# EAGLE library part PIC32MZXXXXEC(E/F/K)144-I/PL (library PIC32)
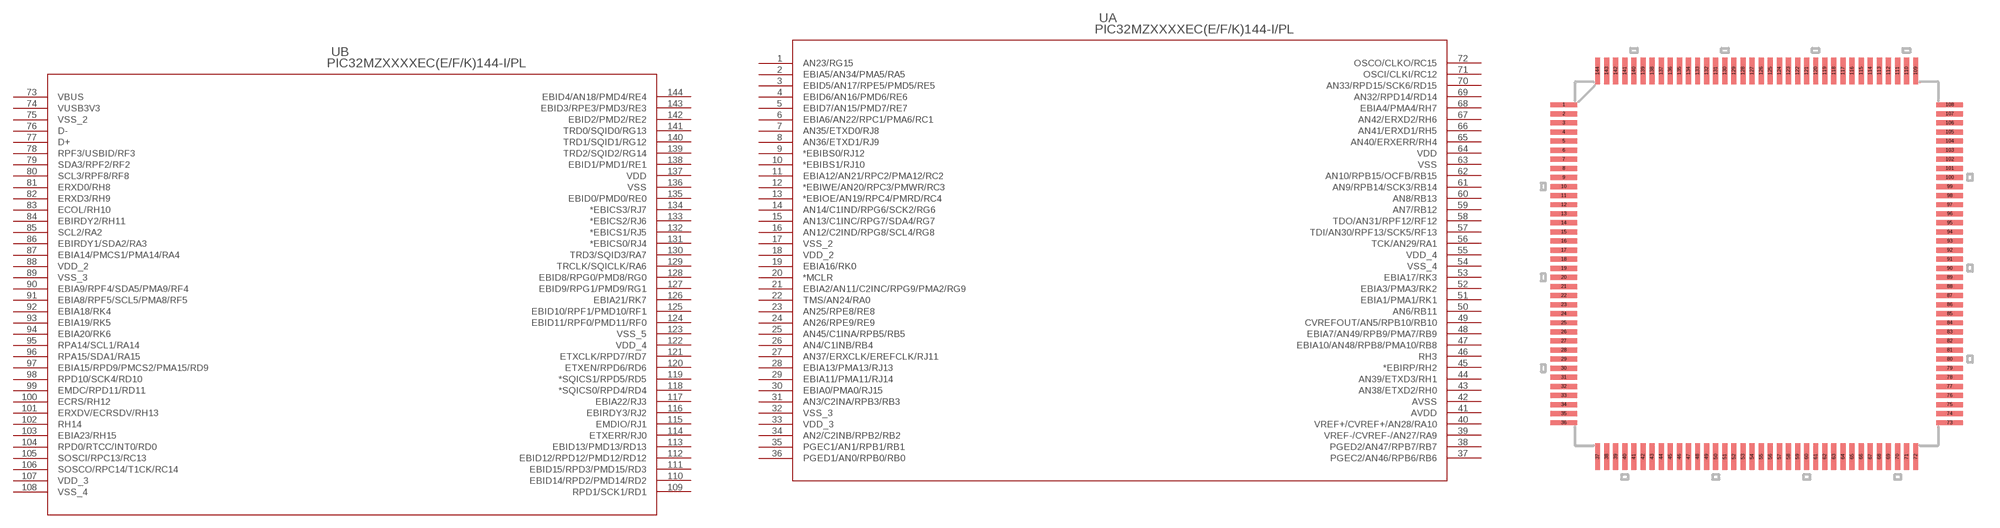
[diagram p0: symbol with the pads of LQFP144_20X20MC; footprint LQFP144_20X20MC]

Designator prefix U; gates A=PIC32MZXXXXEC(E/F/K)144-I/PL_A B=PIC32MZXXXXEC(E/F/K)144-I/PL_B

## PIC32MZXXXXEC(E/F/K)144-I/PL (MANUFACTURER_PART_NUMBER: pic32mz0512ece144-i/pl; VENDOR: Microchip)  [LQFP144_20X20MC]
1  A:AN23/RG15
2  A:EBIA5/AN34/PMA5/RA5
3  A:EBID5/AN17/RPE5/PMD5/RE5
4  A:EBID6/AN16/PMD6/RE6
5  A:EBID7/AN15/PMD7/RE7
6  A:EBIA6/AN22/RPC1/PMA6/RC1
7  A:AN35/ETXD0/RJ8
8  A:AN36/ETXD1/RJ9
9  A:*EBIBS0/RJ12
10  A:*EBIBS1/RJ10
11  A:EBIA12/AN21/RPC2/PMA12/RC2
12  A:*EBIWE/AN20/RPC3/PMWR/RC3
13  A:*EBIOE/AN19/RPC4/PMRD/RC4
14  A:AN14/C1IND/RPG6/SCK2/RG6
15  A:AN13/C1INC/RPG7/SDA4/RG7
16  A:AN12/C2IND/RPG8/SCL4/RG8
17  A:VSS_2  pwr
18  A:VDD_2  pwr
19  A:EBIA16/RK0
20  A:*MCLR  pas
21  A:EBIA2/AN11/C2INC/RPG9/PMA2/RG9
22  A:TMS/AN24/RA0
23  A:AN25/RPE8/RE8
24  A:AN26/RPE9/RE9
25  A:AN45/C1INA/RPB5/RB5
26  A:AN4/C1INB/RB4
27  A:AN37/ERXCLK/EREFCLK/RJ11
28  A:EBIA13/PMA13/RJ13
29  A:EBIA11/PMA11/RJ14
30  A:EBIA0/PMA0/RJ15
31  A:AN3/C2INA/RPB3/RB3
32  A:VSS_3  pwr
33  A:VDD_3  pwr
34  A:AN2/C2INB/RPB2/RB2
35  A:PGEC1/AN1/RPB1/RB1
36  A:PGED1/AN0/RPB0/RB0
37  A:PGEC2/AN46/RPB6/RB6
38  A:PGED2/AN47/RPB7/RB7
39  A:VREF-/CVREF-/AN27/RA9
40  A:VREF+/CVREF+/AN28/RA10
41  A:AVDD  pwr
42  A:AVSS  pwr
43  A:AN38/ETXD2/RH0
44  A:AN39/ETXD3/RH1
45  A:*EBIRP/RH2
46  A:RH3  pas
47  A:EBIA10/AN48/RPB8/PMA10/RB8
48  A:EBIA7/AN49/RPB9/PMA7/RB9
49  A:CVREFOUT/AN5/RPB10/RB10
50  A:AN6/RB11
51  A:EBIA1/PMA1/RK1
52  A:EBIA3/PMA3/RK2
53  A:EBIA17/RK3
54  A:VSS_4  pwr
55  A:VDD_4  pwr
56  A:TCK/AN29/RA1
57  A:TDI/AN30/RPF13/SCK5/RF13
58  A:TDO/AN31/RPF12/RF12
59  A:AN7/RB12
60  A:AN8/RB13
61  A:AN9/RPB14/SCK3/RB14
62  A:AN10/RPB15/OCFB/RB15
63  A:VSS  pwr
64  A:VDD  pwr
65  A:AN40/ERXERR/RH4
66  A:AN41/ERXD1/RH5
67  A:AN42/ERXD2/RH6
68  A:EBIA4/PMA4/RH7
69  A:AN32/RPD14/RD14
70  A:AN33/RPD15/SCK6/RD15
71  A:OSCI/CLKI/RC12
72  A:OSCO/CLKO/RC15
73  B:VBUS  pwr
74  B:VUSB3V3  pwr
75  B:VSS_2  pwr
76  B:D-  pas
77  B:D+  pas
78  B:RPF3/USBID/RF3
79  B:SDA3/RPF2/RF2
80  B:SCL3/RPF8/RF8
81  B:ERXD0/RH8
82  B:ERXD3/RH9
83  B:ECOL/RH10
84  B:EBIRDY2/RH11
85  B:SCL2/RA2
86  B:EBIRDY1/SDA2/RA3
87  B:EBIA14/PMCS1/PMA14/RA4
88  B:VDD_2  pwr
89  B:VSS_3  pwr
90  B:EBIA9/RPF4/SDA5/PMA9/RF4
91  B:EBIA8/RPF5/SCL5/PMA8/RF5
92  B:EBIA18/RK4
93  B:EBIA19/RK5
94  B:EBIA20/RK6
95  B:RPA14/SCL1/RA14
96  B:RPA15/SDA1/RA15
97  B:EBIA15/RPD9/PMCS2/PMA15/RD9
98  B:RPD10/SCK4/RD10
99  B:EMDC/RPD11/RD11
100  B:ECRS/RH12
101  B:ERXDV/ECRSDV/RH13
102  B:RH14  pas
103  B:EBIA23/RH15
104  B:RPD0/RTCC/INT0/RD0
105  B:SOSCI/RPC13/RC13
106  B:SOSCO/RPC14/T1CK/RC14
107  B:VDD_3  pwr
108  B:VSS_4  pwr
109  B:RPD1/SCK1/RD1
110  B:EBID14/RPD2/PMD14/RD2
111  B:EBID15/RPD3/PMD15/RD3
112  B:EBID12/RPD12/PMD12/RD12
113  B:EBID13/PMD13/RD13
114  B:ETXERR/RJ0
115  B:EMDIO/RJ1
116  B:EBIRDY3/RJ2
117  B:EBIA22/RJ3
118  B:*SQICS0/RPD4/RD4
119  B:*SQICS1/RPD5/RD5
120  B:ETXEN/RPD6/RD6
121  B:ETXCLK/RPD7/RD7
122  B:VDD_4  pwr
123  B:VSS_5  pwr
124  B:EBID11/RPF0/PMD11/RF0
125  B:EBID10/RPF1/PMD10/RF1
126  B:EBIA21/RK7
127  B:EBID9/RPG1/PMD9/RG1
128  B:EBID8/RPG0/PMD8/RG0
129  B:TRCLK/SQICLK/RA6
130  B:TRD3/SQID3/RA7
131  B:*EBICS0/RJ4
132  B:*EBICS1/RJ5
133  B:*EBICS2/RJ6
134  B:*EBICS3/RJ7
135  B:EBID0/PMD0/RE0
136  B:VSS  pwr
137  B:VDD  pwr
138  B:EBID1/PMD1/RE1
139  B:TRD2/SQID2/RG14
140  B:TRD1/SQID1/RG12
141  B:TRD0/SQID0/RG13
142  B:EBID2/PMD2/RE2
143  B:EBID3/RPE3/PMD3/RE3
144  B:EBID4/AN18/PMD4/RE4

## Footprint LQFP144_20X20MC (pad centres in mm)
smd 1.473 x 0.279: 1 -10.617,8.75; 2 -10.617,8.25; 3 -10.617,7.75; 4 -10.617,7.25; 5 -10.617,6.75; 6 -10.617,6.25; 7 -10.617,5.75; 8 -10.617,5.25; 9 -10.617,4.75; 10 -10.617,4.25; 11 -10.617,3.75; 12 -10.617,3.25; 13 -10.617,2.75; 14 -10.617,2.25; 15 -10.617,1.75; 16 -10.617,1.25; 17 -10.617,0.75; 18 -10.617,0.25; 19 -10.617,-0.25; 20 -10.617,-0.75; 21 -10.617,-1.25; 22 -10.617,-1.75; 23 -10.617,-2.25; 24 -10.617,-2.75; 25 -10.617,-3.25; 26 -10.617,-3.75; 27 -10.617,-4.25; 28 -10.617,-4.75; 29 -10.617,-5.25; 30 -10.617,-5.75; 31 -10.617,-6.25; 32 -10.617,-6.75; 33 -10.617,-7.25; 34 -10.617,-7.75; 35 -10.617,-8.25; 36 -10.617,-8.75; 73 10.617,-8.75; 74 10.617,-8.25; 75 10.617,-7.75; 76 10.617,-7.25; 77 10.617,-6.75; 78 10.617,-6.25; 79 10.617,-5.75; 80 10.617,-5.25; 81 10.617,-4.75; 82 10.617,-4.25; 83 10.617,-3.75; 84 10.617,-3.25; 85 10.617,-2.75; 86 10.617,-2.25; 87 10.617,-1.75; 88 10.617,-1.25; 89 10.617,-0.75; 90 10.617,-0.25; 91 10.617,0.25; 92 10.617,0.75; 93 10.617,1.25; 94 10.617,1.75; 95 10.617,2.25; 96 10.617,2.75; 97 10.617,3.25; 98 10.617,3.75; 99 10.617,4.25; 100 10.617,4.75; 101 10.617,5.25; 102 10.617,5.75; 103 10.617,6.25; 104 10.617,6.75; 105 10.617,7.25; 106 10.617,7.75; 107 10.617,8.25; 108 10.617,8.75
smd 0.279 x 1.473: 37 -8.75,-10.617; 38 -8.25,-10.617; 39 -7.75,-10.617; 40 -7.25,-10.617; 41 -6.75,-10.617; 42 -6.25,-10.617; 43 -5.75,-10.617; 44 -5.25,-10.617; 45 -4.75,-10.617; 46 -4.25,-10.617; 47 -3.75,-10.617; 48 -3.25,-10.617; 49 -2.75,-10.617; 50 -2.25,-10.617; 51 -1.75,-10.617; 52 -1.25,-10.617; 53 -0.75,-10.617; 54 -0.25,-10.617; 55 0.25,-10.617; 56 0.75,-10.617; 57 1.25,-10.617; 58 1.75,-10.617; 59 2.25,-10.617; 60 2.75,-10.617; 61 3.25,-10.617; 62 3.75,-10.617; 63 4.25,-10.617; 64 4.75,-10.617; 65 5.25,-10.617; 66 5.75,-10.617; 67 6.25,-10.617; 68 6.75,-10.617; 69 7.25,-10.617; 70 7.75,-10.617; 71 8.25,-10.617; 72 8.75,-10.617; 109 8.75,10.617; 110 8.25,10.617; 111 7.75,10.617; 112 7.25,10.617; 113 6.75,10.617; 114 6.25,10.617; 115 5.75,10.617; 116 5.25,10.617; 117 4.75,10.617; 118 4.25,10.617; 119 3.75,10.617; 120 3.25,10.617; 121 2.75,10.617; 122 2.25,10.617; 123 1.75,10.617; 124 1.25,10.617; 125 0.75,10.617; 126 0.25,10.617; 127 -0.25,10.617; 128 -0.75,10.617; 129 -1.25,10.617; 130 -1.75,10.617; 131 -2.25,10.617; 132 -2.75,10.617; 133 -3.25,10.617; 134 -3.75,10.617; 135 -4.25,10.617; 136 -4.75,10.617; 137 -5.25,10.617; 138 -5.75,10.617; 139 -6.25,10.617; 140 -6.75,10.617; 141 -7.25,10.617; 142 -7.75,10.617; 143 -8.25,10.617; 144 -8.75,10.617